# EAGLE library part ADIS16209 (library HyTechDevices)
Analog Devices ADIS16209 High Accuracy, Dual-Axis Digital Inclinometer and Accelerometer
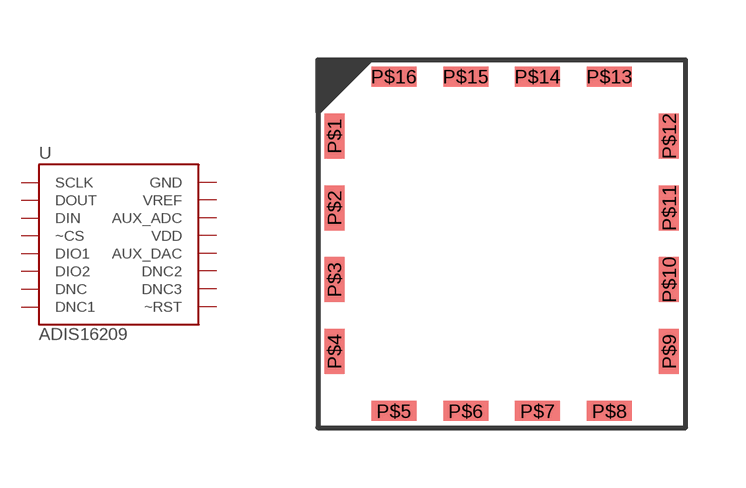
[diagram p98: symbol with the pads of CC-16-2; footprint CC-16-2]

Designator prefix -

## ADIS16209  [CC-16-2]
P$1  SCLK
P$2  DOUT
P$3  DIN
P$4  ~CS
P$5  DIO1
P$6  DIO2
P$7  DNC
P$8  DNC1
P$9  ~RST
P$10  DNC3
P$11  DNC2
P$12  AUX_DAC
P$13  VDD
P$14  AUX_ADC
P$15  VREF
P$16  GND

## Footprint CC-16-2 (pad centres in mm)
smd 0.5 x 1.127: P$1 -4.186,2.696; P$2 -4.186,0.898; P$3 -4.186,-0.898; P$4 -4.186,-2.696; P$9 4.186,-2.696; P$10 4.186,-0.898; P$11 4.186,0.898; P$12 4.186,2.696
smd 1.127 x 0.5: P$5 -2.696,-4.186; P$6 -0.898,-4.186; P$7 0.898,-4.186; P$8 2.696,-4.186; P$13 2.696,4.186; P$14 0.898,4.186; P$15 -0.898,4.186; P$16 -2.696,4.186